# EAGLE library part SSW-135-02-S-S (library con-samtec)
THROUGH-HOLE .025" SQ POST SOCKET Source: Samtec SSW.pdf
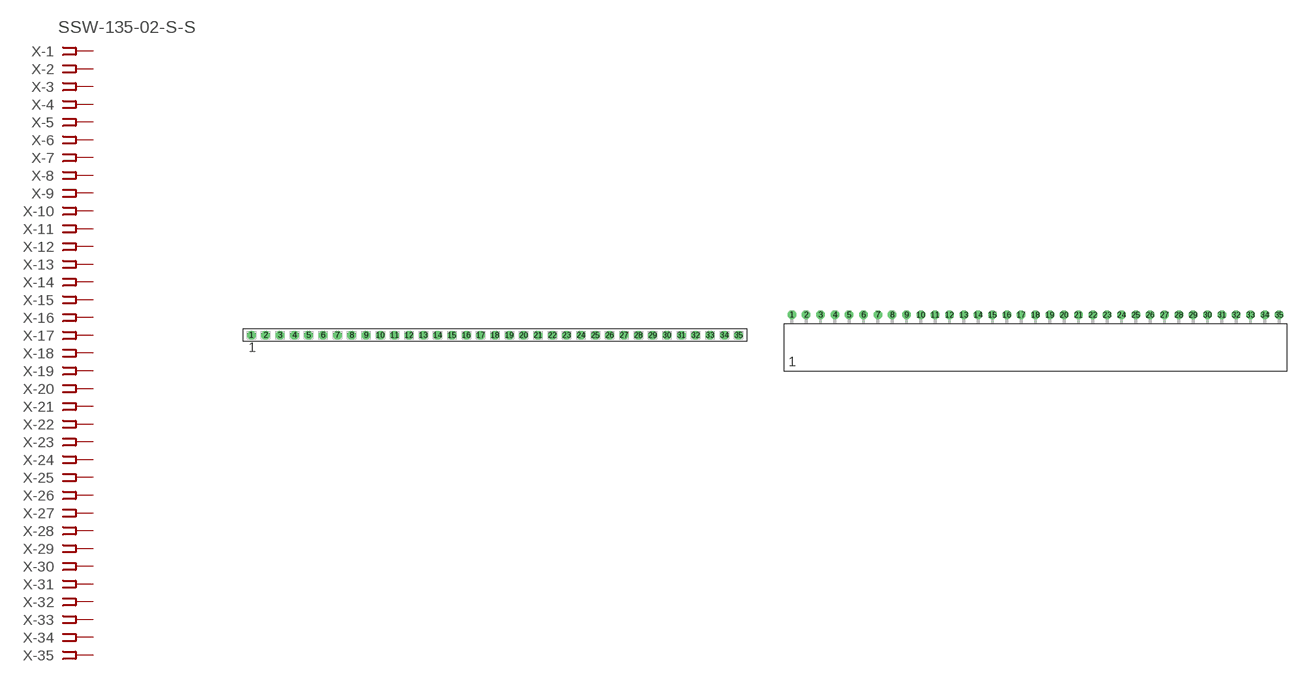
[diagram p69: symbol with the pads of SSW-135-02-S-S; footprints SSW-135-02-S-S, SSW-135-02-S-S-RA]

Designator prefix X; gates -1=FPINV -2=FPIN -3=FPIN -4=FPIN -5=FPIN -6=FPIN -7=FPIN -8=FPIN -9=FPIN -10=FPIN -11=FPIN -12=FPIN -13=FPIN -14=FPIN -15=FPIN -16=FPIN -17=FPIN -18=FPIN -19=FPIN -20=FPIN -21=FPIN -22=FPIN -23=FPIN -24=FPIN -25=FPIN -26=FPIN -27=FPIN -28=FPIN -29=FPIN -30=FPIN -31=FPIN -32=FPIN -33=FPIN -34=FPIN -35=FPIN

## SSW-135-02-S-S  [SSW-135-02-S-S]
1  -1:1  pas
2  -2:1  pas
3  -3:1  pas
4  -4:1  pas
5  -5:1  pas
6  -6:1  pas
7  -7:1  pas
8  -8:1  pas
9  -9:1  pas
10  -10:1  pas
11  -11:1  pas
12  -12:1  pas
13  -13:1  pas
14  -14:1  pas
15  -15:1  pas
16  -16:1  pas
17  -17:1  pas
18  -18:1  pas
19  -19:1  pas
20  -20:1  pas
21  -21:1  pas
22  -22:1  pas
23  -23:1  pas
24  -24:1  pas
25  -25:1  pas
26  -26:1  pas
27  -27:1  pas
28  -28:1  pas
29  -29:1  pas
30  -30:1  pas
31  -31:1  pas
32  -32:1  pas
33  -33:1  pas
34  -34:1  pas
35  -35:1  pas

## SSW-135-02-S-S-RA  [SSW-135-02-S-S-RA]
Pads as for SSW-135-02-S-S

## Footprint SSW-135-02-S-S (pad centres in mm)
THROUGH-HOLE .025" SQ POST SOCKET Source: Samtec SSW.pdf
drill 1 pad 1.5 octagon: 1 -43.18,0; 2 -40.64,0; 3 -38.1,0; 4 -35.56,0; 5 -33.02,0; 6 -30.48,0; 7 -27.94,0; 8 -25.4,0; 9 -22.86,0; 10 -20.32,0; 11 -17.78,0; 12 -15.24,0; 13 -12.7,0; 14 -10.16,0; 15 -7.62,0; 16 -5.08,0; 17 -2.54,0; 18 0,0; 19 2.54,0; 20 5.08,0; 21 7.62,0; 22 10.16,0; 23 12.7,0; 24 15.24,0; 25 17.78,0; 26 20.32,0; 27 22.86,0; 28 25.4,0; 29 27.94,0; 30 30.48,0; 31 33.02,0; 32 35.56,0; 33 38.1,0; 34 40.64,0; 35 43.18,0

## Footprint SSW-135-02-S-S-RA (pad centres in mm)
THROUGH-HOLE .025" SQ POST SOCKET Source: Samtec SSW.pdf
drill 1 pad 1.5 octagon: 1 -43.18,1.524; 2 -40.64,1.524; 3 -38.1,1.524; 4 -35.56,1.524; 5 -33.02,1.524; 6 -30.48,1.524; 7 -27.94,1.524; 8 -25.4,1.524; 9 -22.86,1.524; 10 -20.32,1.524; 11 -17.78,1.524; 12 -15.24,1.524; 13 -12.7,1.524; 14 -10.16,1.524; 15 -7.62,1.524; 16 -5.08,1.524; 17 -2.54,1.524; 18 0,1.524; 19 2.54,1.524; 20 5.08,1.524; 21 7.62,1.524; 22 10.16,1.524; 23 12.7,1.524; 24 15.24,1.524; 25 17.78,1.524; 26 20.32,1.524; 27 22.86,1.524; 28 25.4,1.524; 29 27.94,1.524; 30 30.48,1.524; 31 33.02,1.524; 32 35.56,1.524; 33 38.1,1.524; 34 40.64,1.524; 35 43.18,1.524